# Altium schematic symbol library arduino_nano.SchLib: 20 symbols
Pins are listed as number, name and electrical type; pins without a type are passive.

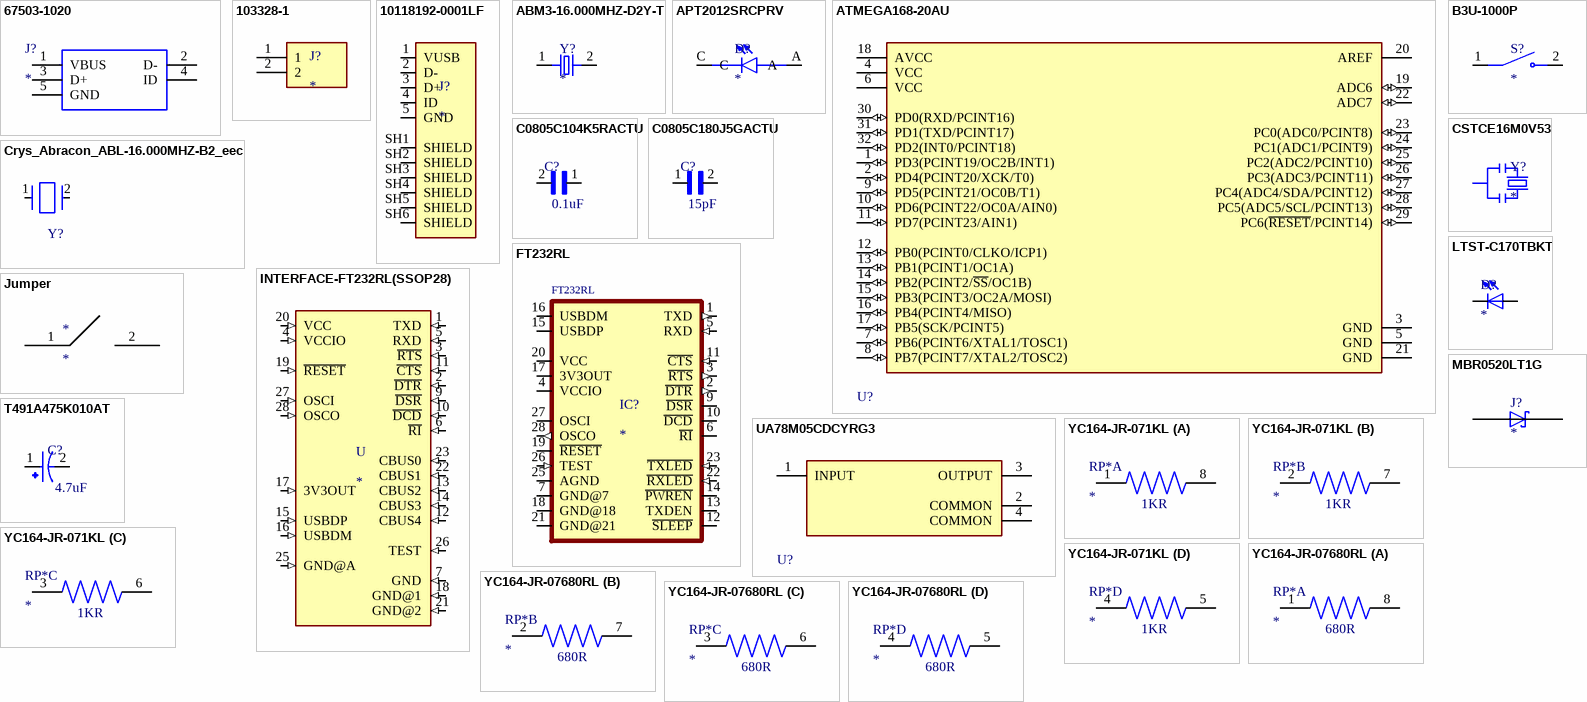
[diagram p0: symbols 67503-1020 to YC164-JR-07680RL]

## 67503-1020
designator J?
<b>0.8mm USB OTG Mini B SMT R/A Sol Tab Molex On-The-Go Series Right Angle SMT Version 2.0 Type B Mini USB Connector,  Receptacle, 30 V ac/dc, 1A</b><p> </b><br><a href="<br><a href="https://componentsearchengine.com/Images/3/67503-1020.jpg" title="Image"> <img src="https://componentsearchengine.com/Images/3/67503-1020.jpg" width="150"></a><p> Source: <a href="http://docs-europe.electrocomponents.com/webdocs/13c4/0900766b813c46de.pdf"> Datasheet </a>; MF: {'manufacturer': u'Molex'}; MP: 67503-1020; Package: None; Availability: Unavailable; Price: None; Value: *
footprint 67503-1020
pins: 1 VBUS, 2 D-, 3 D+, 4 ID, 5 GND

## 103328-1
designator J?
18 MODII HDR DRST B/A .100CL; MF: {'manufacturer': u'TE Connectivity'}; MP: 103328-1; Price: None; Availability: Unavailable; Value: *; Package: None
footprint TE_103328-1
pins: 1, 2

## 10118192-0001LF
designator J?
Single Port 5 Contact Horizontal Right Angle Shielded Micro B USB 2.0 Connector; MP: 10118192-0001LF; MF: {'manufacturer': u'AMPHENOL ICC / FCI'}; Value: *; Price: None; Availability: Unavailable; Package: None
footprint AMPHENOL_10118192-0001LF
pins: 1 VUSB, 2 D-, 3 D+, 4 ID, 5 GND, SH1 SHIELD, SH2 SHIELD, SH3 SHIELD, SH4 SHIELD, SH5 SHIELD, SH6 SHIELD

## ABM3-16.000MHZ-D2Y-T
designator Y?
Crystals 12MHz 18pF 30ppm -40C +85C; MP: ABM3-16.000MHZ-D2Y-T; MF: {'manufacturer': u'Abracon'}; Value: *; Price: None; Availability: Unavailable; Package: None
footprint XTAL500X320X130N
pins: 1, 2

## APT2012SRCPRV
designator D?
2.0X1.2MM,RED SMD LED; MF: {'manufacturer': u'Kingbright'}; MP: APT2012SRCPRV; Value: *; Price: None; Package: None; Availability: Unavailable
footprint LEDC2012X75N
pins: A, C

## ATMEGA168-20AU
designator U?  (value not drawn)
footprint Microchip_32A_IPC_A
pins: 1 PD3(PCINT19/OC2B/INT1) (io), 2 PD4(PCINT20/XCK/T0) (io), 3 GND (power), 4 VCC (power), 5 GND (power), 6 VCC (power), 7 PB6(PCINT6/XTAL1/TOSC1) (io), 8 PB7(PCINT7/XTAL2/TOSC2) (io), 9 PD5(PCINT21/OC0B/T1) (io), 10 PD6(PCINT22/OC0A/AIN0) (io), 11 PD7(PCINT23/AIN1) (io), 12 PB0(PCINT0/CLKO/ICP1) (io), 13 PB1(PCINT1/OC1A) (io), 14 PB2(PCINT2/~{SS}/OC1B) (io), 15 PB3(PCINT3/OC2A/MOSI) (io), 16 PB4(PCINT4/MISO) (io), 17 PB5(SCK/PCINT5) (io), 18 AVCC (power), 19 ADC6 (io), 20 AREF, 21 GND (power), 22 ADC7 (io), 23 PC0(ADC0/PCINT8) (io), 24 PC1(ADC1/PCINT9) (io), 25 PC2(ADC2/PCINT10) (io), 26 PC3(ADC3/PCINT11) (io), 27 PC4(ADC4/SDA/PCINT12) (io), 28 PC5(ADC5/SCL/PCINT13) (io), 29 PC6(~{RESET}/PCINT14) (io), 30 PD0(RXD/PCINT16) (io), 31 PD1(TXD/PCINT17) (io), 32 PD2(INT0/PCINT18) (io)

## B3U-1000P
designator S?
Switch Tactile N.O. SPST Round Button Gull Wing 0.05A 12VDC 1.5N SMD Embossed T/R; MF: {'manufacturer': u'Omron'}; MP: B3U-1000P; Value: *; Price: None; Package: None; Availability: Unavailable
footprint SW_B3U-1000P
pins: 1, 2

## C0805C104K5RACTU
designator C?  value 0.1uF  (hidden comment: *)
SMD 0805 CERAMIC X7R -55^+125 100 NF +/-10? 50V; MF: {'manufacturer': u'KEMET'}; MP: C0805C104K5RACTU; Price: None; Package: None; Availability: Unavailable
footprint CAPC2012X88N
footprint CAPC2012X88N
pins: 1, 2

## C0805C180J5GACTU
designator C?  value 15pF  (hidden comment: *)
Capacitor [KEMET] C0805C180J5GACTU Capacitor; MF: {'manufacturer': u'KEMET'}; Price: None; Package: None; Availability: Unavailable; MP: C0805C180J5GACTU
footprint CAPC2012X88N
pins: 1, 2

## Crys_Abracon_ABL-16.000MHZ-B2_eec
designator Y?
CRYS 16MHz ±20ppm Crystal 18pF 40 Ohm -20°C ~ 70°C Through Hole HC49/US; Part Number: ABL-16.000MHZ-B2; Manufacturer: Abracon; Frequency Stability: ±50ppm; ESR: 40 Ohm; Operating Mode: Fundamental; helpURL: https://upverter.com/upn/revision/7ebf07e1da2eb130/; ComponentLink2Description: Datasheet; Temperature: 0ºC to +70ºC; Package: HC/49US; Supplier 2: Mouser; Price: 0.175999999027; Supplier 1: Digi-Key; ComponentLink1URL: https://upverter.com/upn/revision/7ebf07e1da2eb130/; Supplier Part Number 2: 815-ABL-16-B2; Supplier Part Number 1: 535-9041-ND; ComponentLink1Description: Upverter; ComponentLink2URL: http://www.abracon.com/Resonators/ABL.pdf; RoHS: TRUE; Mouser Part Number: 815-ABL-16-B2; Frequency Tolerance: ±20ppm; Temperature Range High: +70ºC; Digikey Description: CRYS 16MHz ±20ppm Crystal 18pF 40 Ohm -20°C ~ 70°C Through Hole HC49/US; Digikey Part Number: 535-9041-ND; Lead Free: yes; Temperature Range Low: 0ºC; Load Capacitance: 18pF; Frequency: 16MHz
footprint Abracon_ABL-16.000MHZ-B2_0
pins: 1, 2

## CSTCE16M0V53
designator Y?
<b>CSTCE16M0V53</b> Ceramic Resonator (CERALOCK) 16 MHz Chip Type; MF: {'manufacturer': u'Murata Electronics'}; MP: CSTCE16M0V53; Value: *; Price: None; Availability: Unavailable; Package: None
footprint CSTCE16M0V53
pins: 1, 2, 3

## FT232RL
designator IC?
MF: {'manufacturer': u'FTDI, Future'}; MP: FT232RL; Value: *; Price: None; Package: None; Availability: Unavailable
footprint SSOP28-0.65-10.2X5.2MM
pins: 1 TXD (out), 2 ~{DTR} (out), 3 ~{RTS} (out), 4 VCCIO (power), 5 RXD (in), 6 ~{RI}, 7 GND@7 (power), 9 ~{DSR}, 10 ~{DCD}, 11 ~{CTS} (in), 12 ~{SLEEP}, 13 TXDEN, 14 ~{PWREN}, 15 USBDP (io), 16 USBDM (io), 17 3V3OUT (power), 18 GND@18 (power), 19 ~{RESET}, 20 VCC (power), 21 GND@21 (power), 22 ~{RXLED} (in), 23 ~{TXLED} (in), 25 AGND (power), 26 TEST (in), 27 OSCI, 28 OSCO (out)

## INTERFACE-FT232RL(SSOP28)
designator U
USB Bridge, USB to UART USB 2.0 UART Interface 28-SSOP; MP: FT232RL; MF: FTDI, Future; SnapEDA_Link: https://www.snapeda.com/parts/FT232RL/FTDI%2C%20Future%20Technology%20Devices%20International%20Ltd/view-part/1077088/?ref=snap; Package: SSOP-28 FTDI, Future; Price: None; Value: *; Availability: Unavailable
footprint SSOP28-0.65-10.2X5.2MM
pins: 1 TXD (in), 2 ~{DTR} (in), 3 ~{RTS} (in), 4 VCCIO (in), 5 RXD (in), 6 ~{RI} (in), 7 GND (in), 9 ~{DSR} (in), 10 ~{DCD} (in), 11 ~{CTS} (in), 12 CBUS4 (in), 13 CBUS2 (in), 14 CBUS3 (in), 15 USBDP (in), 16 USBDM (in), 17 3V3OUT (in), 18 GND@1 (in), 19 ~{RESET} (in), 20 VCC (in), 21 GND@2 (in), 22 CBUS1 (in), 23 CBUS0 (in), 25 GND@A (in), 26 TEST (in), 27 OSCI (in), 28 OSCO (in)

## Jumper
designator *
footprint TE_103328-1
pins: 1, 2

## LTST-C170TBKT
designator D?
Green 2 x 1.25 x 1.1 mm 130Â° Water Clear 35 mcd 2 V Surface Mount LED; MF: {'manufacturer': u'Lite-On Inc.'}; MP: LTST-C170TBKT; Value: *; Price: None; Package: None; Availability: Unavailable
footprint DIOC200X125X110
pins: NEG, POS

## MBR0520LT1G
designator J?
Surface Mount Schottky Power Rectifier Plastic SODâˆ’123 Package; MF: {'manufacturer': u'ON Semiconductor'}; MP: MBR0520LT1G; Value: *; Price: None; Package: None; Availability: Unavailable
footprint SOD3716X117(SOD-123)
pins: 1 C, 2 A

## T491A475K010AT
designator C?  value 4.7uF  (hidden comment: *)
4.7ÂµF Molded Tantalum Capacitors 25V 1206 (3216 Metric) 6Ohm; MF: {'manufacturer': u'KEMET'}; MP: T491A475K010AT; Price: None; Package: None; Availability: Unavailable
footprint CAPMP3216X180N
pins: 1, 2

## UA78M05CDCYRG3
designator U?  (value not drawn)
footprint Texas_Instruments_DCY0004A_IPC_A
pins: 1 INPUT (power), 2 COMMON (power), 3 OUTPUT (power), 4 COMMON (power)

## YC164-JR-071KL
designator RP*
Res Thick Film Array 100 Ohm 5% ?200ppm/C ISOL Epoxy 8-Pin 1206(4 X 0603) Convex SMD T/R
footprint RESCAXE80P320X160X70-8N
part A pins: 1, 8
part B pins: 2, 7
part C pins: 3, 6
part D pins: 4, 5
part A text: 1KR
part B text: 1KR
part C text: 1KR
part D text: 1KR

## YC164-JR-07680RL
designator RP*
Res Thick Film Array 100 Ohm 5% ?200ppm/C ISOL Epoxy 8-Pin 1206(4 X 0603) Convex SMD T/R
footprint RESCAXE80P320X160X70-8N
part A pins: 1, 8
part B pins: 2, 7
part C pins: 3, 6
part D pins: 4, 5
part A text: 680R
part B text: 680R
part C text: 680R
part D text: 680R